# Altium schematic symbol library rtc.SchLib: 3 symbols
Pins are listed as number, name and electrical type; pins without a type are passive.

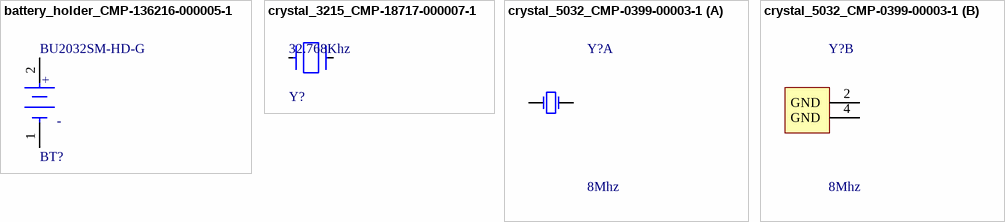
[diagram p0: symbols battery_holder_CMP-136216-000005-1 to crystal_5032_CMP-0399-00003-1]

## battery_holder_CMP-136216-000005-1
designator BT?, comment BU2032SM-HD-G
BATTERY HOLDER COIN 20MM SMD; Number of Cells: 1; Termination: SMD/SMT; Min Operating Temperature: -40°C; Case/Package: SMD/SMT; Diameter: 20mm; Package Quantity: 1; Lead Free: Lead Free; Mount: Surface Mount; Packaging: Cut Tape; Max Operating Temperature: 280°C
footprint FP-BU2032SM-HD-G-MFG
pins: 1 C, 2 A
text: +; -

## crystal_3215_CMP-18717-000007-1
designator Y?, comment 32.768Khz
9HT10-32.768KDZY-T, CRYSTAL 32.7680KHZ 7PF SMD; Tolerance: 20ppm; ESR (Equivalent Series Resistance): 70kR; Case/Package: SMD/SMT; Frequency: 32.768kHz; Load Capacitance: 7pF; Mount: Surface Mount; Package Quantity: 1; REACH SVHC: No SVHC; Packaging: Tape and Reel; Number of Pins: 2; Termination: SMD/SMT; Length: 0.126inch; Width: 1.5mm; Height: 0.033inch; Max Operating Temperature: 85°C; Lead Free: Lead Free; Min Operating Temperature: -40°C; Frequency Tolerance: 20ppm
footprint FP-9HT10-MFG
pins: 1, 2

## crystal_5032_CMP-0399-00003-1
designator Y?, comment 8Mhz
FQ5032B-24, Crystal Oscillator, SMD, 24MHz, Stab=30ppm 20.0pF; Manufacturer: FOX Electronics; Frequency Tolerance: 30 ppm; Mounting Technology: Surface Mount; Nominal Frequency: 24 MHz; ComponentLink2Description: Datasheet; ComponentLink1Description: Manufacturer URL; ComponentLink2URL: http://www.foxonline.com/pdfs/fq5032.pdf; PackageDescription: 4-Pin SMT Crystal, 5.2 x 3.4 mm Body; DatasheetVersion: Mar-10; ComponentLink1URL: http://www.foxonline.com/; PartNumber: FQ5032B-24; Storage Temperature: -40 to 85 degC; PackageReference: FQ5032B
footprint FOX-FQ5032B_V (SMT Crystal, 4-Leads, Body 5.2x3.4mm)
part A pins: 1 X1, 3 X2
part B pins: 2 GND, 4 GND